# EAGLE library part TPIC74100-Q1 (library upc)
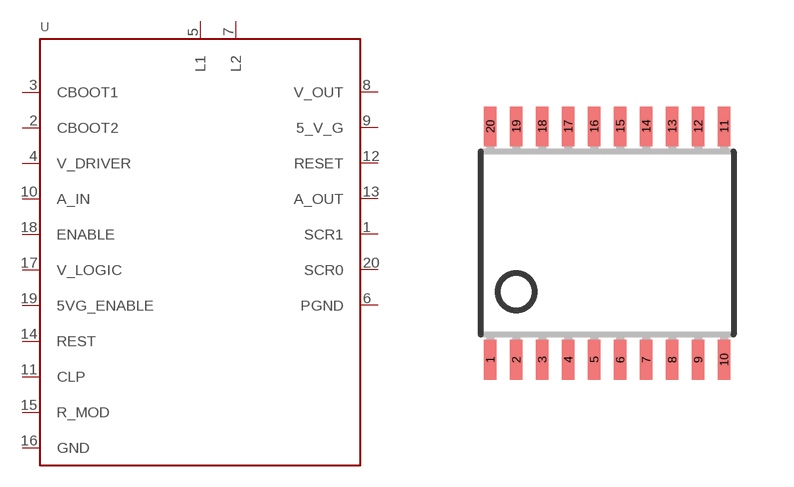
[diagram p0: symbol with the pads of TSSOP20; footprint TSSOP20]

Designator prefix -

## TPIC74100-Q1  [TSSOP20]
1  SCR1
2  CBOOT2
3  CBOOT1
4  V_DRIVER
5  L1
6  PGND
7  L2
8  V_OUT
9  5_V_G
10  A_IN
11  CLP
12  RESET
13  A_OUT
14  REST
15  R_MOD
16  GND
17  V_LOGIC
18  ENABLE
19  5VG_ENABLE
20  SCR0

## Footprint TSSOP20 (pad centres in mm)
smd 0.305 x 0.991: 1 -2.925,-2.918; 2 -2.275,-2.918; 3 -1.625,-2.918; 4 -0.975,-2.918; 5 -0.325,-2.918; 6 0.325,-2.918; 7 0.975,-2.918; 8 1.625,-2.918; 9 2.275,-2.918; 10 2.925,-2.918; 11 2.925,2.918; 12 2.275,2.918; 13 1.625,2.918; 14 0.975,2.918; 15 0.325,2.918; 16 -0.325,2.918; 17 -0.975,2.918; 18 -1.625,2.918; 19 -2.275,2.918; 20 -2.925,2.918